# EAGLE library part 692121230100 (library WR-USB)
WR-COM USB 3.0 Type A Horizontal w. Offset 1.04 mm Kind Properties Durability:5 000 Mating cycles Quality Class:5 000 Mating cycles Connector Type:USB Gender:Receptacle Type:Horizontal General Information Operating Temperature:-20up to +85 °C Compliance:Lead free / RoHS Electrical Properties IR 1:1.8A Working Voltage:30V (AC) Withstanding Voltage:100V (AC) Contact Resistance:50 mΩ Material Properties Insulator Material:LCP Insulator Flammability Rating:UL94 V-0 Color:Blue Cover Material:Brass Cover Plating:Matte Tin Contact Material:Phosphor Bronze Contact Plating:Matte Tin over Nickel Contact Type:Stamped Shielding Material:Brass Shielding Plating:Matte Tin over Nickel <https://www.we-online.com/catalog/media/o33023v209%20Family_WR-COM_692121230100.jpg> Details see: https://www.we-online.com/catalog/en/COM_3_0_TYPE_A_HORIZONTAL_W_OFFSET_1_04MM/ Updated by Ella Wu 2021-09-28 2021 (C) Würth Elektronik
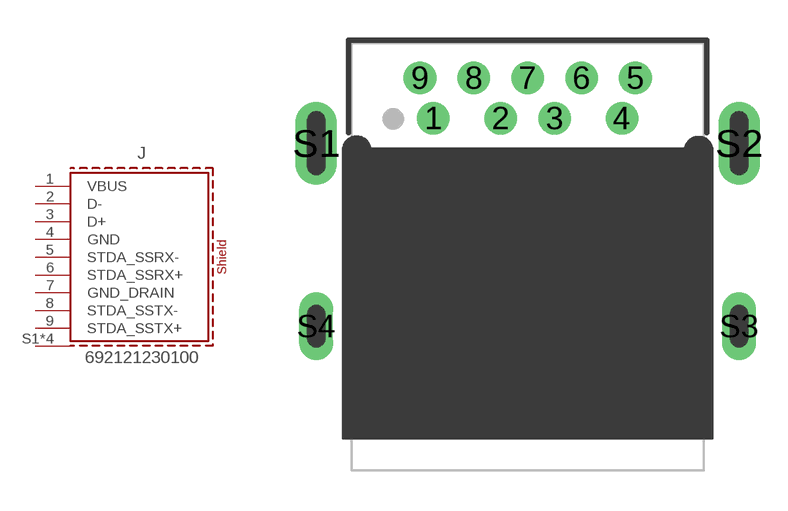
[diagram p22: symbol with the pads of 692121230100; footprint 692121230100]

Designator prefix J

## 692121230100 (APPLICATION: USB 3.0; DATASHEET-URL: https://www.we-online.com/redexpert/spec/692121230100?ae; GERDER: Receptacle; INTERFACE-TYPE: Type A; IR: 1.8A; MOUNT: THR; PACKAGING: Tape and Reel; PART-NUMBER: 692121230100; PINS: 9; TYPE: Horizontal; VALUE: 692121230100; WORKING-VOLTAGE: 30V(AC))  [692121230100]
1  VBUS  pas
2  D-  pas
3  D+  pas
4  GND  pas
5  STDA_SSRX-  pas
6  STDA_SSRX+  pas
7  GND_DRAIN  pas
8  STDA_SSTX-  pas
9  STDA_SSTX+  pas
S1  SHIELD  pas
S2  SHIELD  pas
S3  SHIELD  pas
S4  SHIELD  pas

## Footprint 692121230100 (pad centres in mm)
WR-COM USB 3.0 Type A Horizontal w. Offset 1.04 mm
drill 0.7: 1 -3.5,5.145; 2 -1,5.145; 3 1,5.145; 4 3.5,5.145; 5 4,6.645; 6 2,6.645; 7 0,6.645; 8 -2,6.645; 9 -4,6.645
drill 0.6 pad 1.54 long: S1 -7.85,4.215; S2 7.85,4.215
drill 0.6 pad 1.27 long: S3 7.85,-2.585; S4 -7.85,-2.585